# EAGLE library part M07X2 (library work)
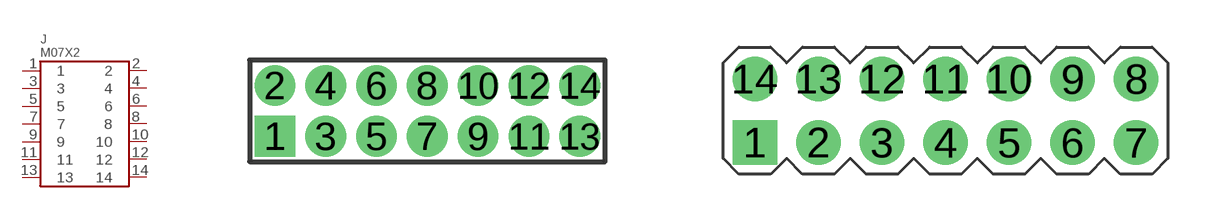
[diagram p61: symbol with the pads of M07X2-50MIL; footprints M07X2-50MIL, M07X2]

Designator prefix J

## M07X2-50MIL  [M07X2-50MIL]
1  1
2  2
3  3
4  4
5  5
6  6
7  7
8  8
9  9
10  10
11  11
12  12
13  13
14  14

## M07X2-100MIL  [M07X2]
Pads as for M07X2-50MIL

## Footprint M07X2-50MIL (pad centres in mm)
drill 0.508 pad 0.914 square: 1 -3.81,-0.635
drill 0.508 pad 0.914: 2 -3.81,0.635; 3 -2.54,-0.635; 4 -2.54,0.635; 5 -1.27,-0.635; 6 -1.27,0.635; 7 0,-0.635; 8 0,0.635; 9 1.27,-0.635; 10 1.27,0.635; 11 2.54,-0.635; 12 2.54,0.635; 13 3.81,-0.635; 14 3.81,0.635

## Footprint M07X2 (pad centres in mm)
drill 1.016 pad 1.778 square: 1 -7.62,-1.27
drill 1.016 pad 1.778: 2 -5.08,-1.27; 3 -2.54,-1.27; 4 0,-1.27; 5 2.54,-1.27; 6 5.08,-1.27; 7 7.62,-1.27; 8 7.62,1.27; 9 5.08,1.27; 10 2.54,1.27; 11 0,1.27; 12 -2.54,1.27; 13 -5.08,1.27; 14 -7.62,1.27